# Altium integrated library RPI_PICO.IntLib: 1 symbol
Pins are listed as number, name and electrical type; pins without a type are passive.

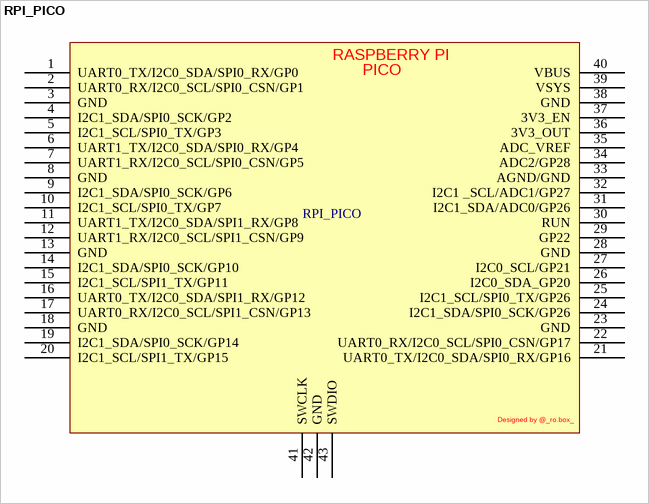
[diagram p0: symbol RPI_PICO]

## RPI_PICO
designator RPI_PICO
footprint RPI PICO 2020
pins: 1 UART0_TX/I2C0_SDA/SPI0_RX/GP0, 2 UART0_RX/I2C0_SCL/SPI0_CSN/GP1, 3 GND, 4 I2C1_SDA/SPI0_SCK/GP2, 5 I2C1_SCL/SPI0_TX/GP3, 6 UART1_TX/I2C0_SDA/SPI0_RX/GP4, 7 UART1_RX/I2C0_SCL/SPI0_CSN/GP5, 8 GND, 9 I2C1_SDA/SPI0_SCK/GP6, 10 I2C1_SCL/SPI0_TX/GP7, 11 UART1_TX/I2C0_SDA/SPI1_RX/GP8, 12 UART1_RX/I2C0_SCL/SPI1_CSN/GP9, 13 GND, 14 I2C1_SDA/SPI0_SCK/GP10, 15 I2C1_SCL/SPI1_TX/GP11, 16 UART0_TX/I2C0_SDA/SPI1_RX/GP12, 17 UART0_RX/I2C0_SCL/SPI1_CSN/GP13, 18 GND, 19 I2C1_SDA/SPI0_SCK/GP14, 20 I2C1_SCL/SPI1_TX/GP15, 21 UART0_TX/I2C0_SDA/SPI0_RX/GP16, 22 UART0_RX/I2C0_SCL/SPI0_CSN/GP17, 23 GND, 24 I2C1_SDA/SPI0_SCK/GP26, 25 I2C1_SCL/SPI0_TX/GP26, 26 I2C0_SDA_GP20, 27 I2C0_SCL/GP21, 28 GND, 29 GP22, 30 RUN, 31 I2C1_SDA/ADC0/GP26, 32 I2C1 _SCL/ADC1/GP27, 33 AGND/GND, 34 ADC2/GP28, 35 ADC_VREF, 36 3V3_OUT, 37 3V3_EN, 38 GND, 39 VSYS, 40 VBUS, 41 SWCLK, 42 GND, 43 SWDIO
text: RASPBERRY PI; PICO; Designed by @_ro.box_